# Altium footprint library 35x30-blackbox.PcbLib: 16 footprints
Each footprint in its own frame and in the unit in brackets; x right, y up, seen from the top. Pads: shape width x height; smd on the part's side, far side on the other; paste and mask are expansions set on the pad; w line width, h text height; cw(c..) or ccw(c..) is an arc to the next point about the centre after c.
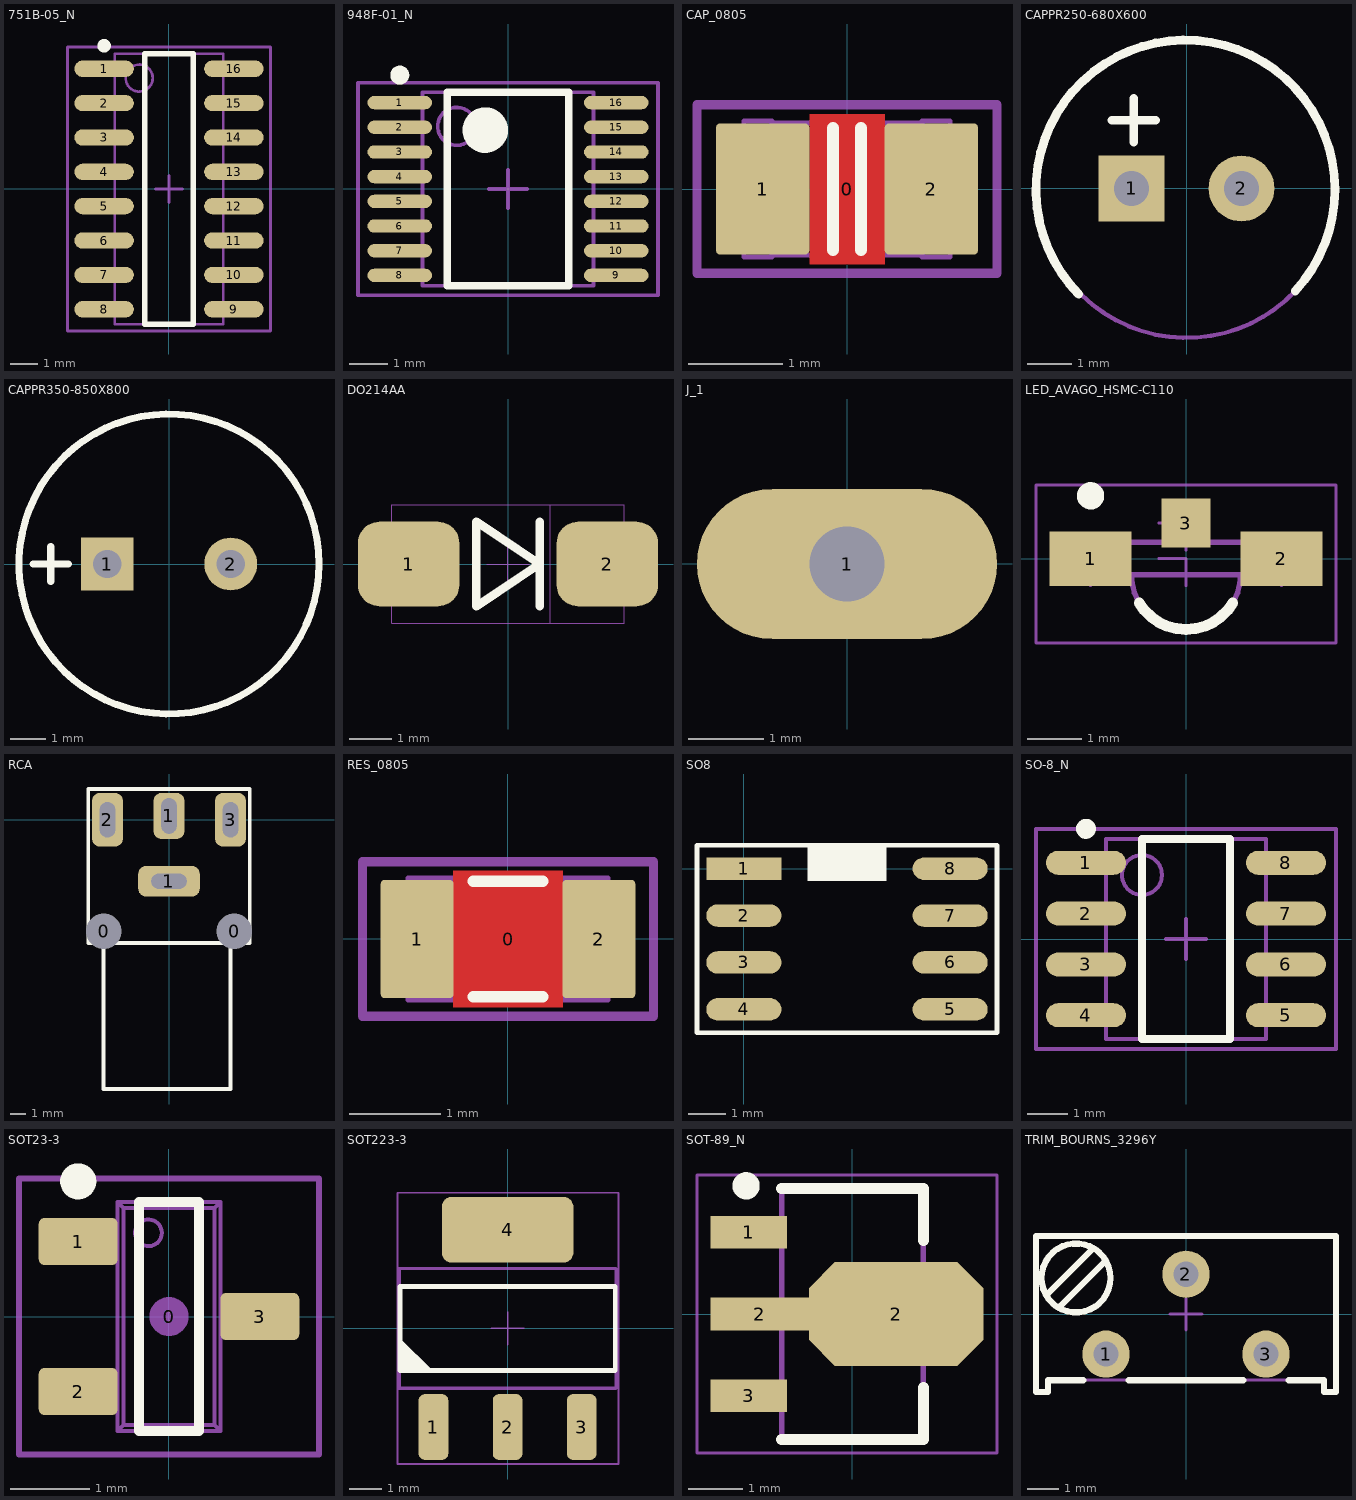
[diagram p0: the footprints below, top view; thin cyan lines are the x and y axes]

## 751B-05_N [mm] "SOIC, 16-Leads, Body 9.9x3.9mm, Pitch 1.27mm, IPC Medium Density"
height 1.75
pads (16):
  oval 2.2x0.6 smd: 1(-2.4,4.445) 2(-2.4,3.175) 3(-2.4,1.905) 4(-2.4,0.635) 5(-2.4,-0.635) 6(-2.4,-1.905) 7(-2.4,-3.175) 8(-2.4,-4.445) 9(2.4,-4.445) 10(2.4,-3.175) 11(2.4,-1.905) 12(2.4,-0.635) 13(2.4,0.635) 14(2.4,1.905) 15(2.4,3.175) 16(2.4,4.445)
Top Overlay:
  circle w0.25: c-2.4,5.295 r0.125
  lines w0.2: -0.9,-5 0.9,-5 0.9,5 -0.9,5 -0.9,-5
Mechanical 13:
  circle w0.1: c-1.1,4.1 r0.5
  lines w0.1: -2,-5 2,-5 2,5 -2,5 -2,-5
Mechanical 15:
  lines w0.1: -0.5,0 0.5,0 ; 0,-0.5 0,0.5 ; -3.75,-5.25 3.75,-5.25 3.75,5.25 -3.75,5.25 -3.75,-5.25
3D body: height 1.75, standoff 0, extent -2,-5 2,5

## 948F-01_N [mm] "TSOP, 16-Leads, Body 5x4.4mm, Pitch 0.65mm, IPC Medium Density"
height 1.2
pads (16):
  oval 1.7x0.35 smd: 1(-2.85,2.275) 2(-2.85,1.625) 3(-2.85,0.975) 4(-2.85,0.325) 5(-2.85,-0.325) 6(-2.85,-0.975) 7(-2.85,-1.625) 8(-2.85,-2.275) 9(2.85,-2.275) 10(2.85,-1.625) 11(2.85,-0.975) 12(2.85,-0.325) 13(2.85,0.325) 14(2.85,0.975) 15(2.85,1.625) 16(2.85,2.275)
Top Overlay:
  circle w0.6: c-0.6,1.55 r0.3
  circle w0.25: c-2.85,3 r0.125
  lines w0.2: -1.6,-2.55 1.6,-2.55 1.6,2.55 -1.6,2.55 -1.6,-2.55
Mechanical 13:
  circle w0.1: c-1.35,1.65 r0.5
  lines w0.1: -2.25,-2.55 2.25,-2.55 2.25,2.55 -2.25,2.55 -2.25,-2.55
Mechanical 15:
  lines w0.1: -0.5,0 0.5,0 ; 0,-0.5 0,0.5 ; -3.95,-2.8 3.95,-2.8 3.95,2.8 -3.95,2.8 -3.95,-2.8
3D body: height 1.2, standoff 0, extent -2.25,-2.55 2.25,2.55

## CAP_0805 [mm] "Chip Capacitor, Body 2.0x1.2mm, 0805, IPC Medium Density"
height 1.2
pads (3):
  round 0.254 on Mech14: 0(0,0)
  rrect10% 1x1.4 smd: 1(-0.9,0) 2(0.9,0)
Top Layer:
  pour cut-out: -0.4,0.8 0.4,0.8 0.4,-0.8 -0.4,-0.8
Top Overlay:
  lines w0.127: -0.15,-0.651 -0.15,0.651 ; 0.15,-0.651 0.15,0.651
Mechanical 13:
  lines w0.05: -0.8,-0.705 0.8,-0.705 ; -0.8,0.705 0.8,0.705 ; -1.1,-0.725 -0.8,-0.725 -0.8,0.725 -1.1,0.725 -1.1,-0.725 ; 0.8,-0.725 0.8,0.725 1.1,0.725 1.1,-0.725 0.8,-0.725
Mechanical 14:
  lines w0.1: -1.6,-0.9 1.6,-0.9 1.6,0.9 -1.6,0.9 -1.6,-0.9
3D body "CAP_0805.STEP": height 1.34, standoff -0.01, extent -1.1,-0.725 1.1,0.725

## CAPPR250-680X600 [mm] "Capacitor, Radial, Pin spacing 2.5mm - Body Diameter 6.8mm X Body Height 6.0mm"
height 6
pads (2):
  rect 1.5x1.5 hole 0.8: 1(-1.25,0)
  round 1.5 hole 0.8: 2(1.25,0)
Top Overlay:
  lines w0.2: -2.451,-2.407 cw(c-0.025,-0.025) 2.474,-2.33 ; -1.7,1.55 -0.7,1.55 ; -1.2,1.05 -1.2,2.05
Mechanical 13:
  circle w0.1: c0,0 r3.4
Mechanical 14:
  circle w0.1: c0,0 r3.4
  lines w0.1: -1.7,1.55 -0.7,1.55 ; -1.2,1.05 -1.2,2.05
3D body "CAPPR250-680X600.stp": height 6, standoff -3.6, extent -3.41,-3.41 3.39,3.39

## CAPPR350-850X800 [mm] "Capacitor, Radial, Pin spacing 3.5mm - Body Diameter 8.5mm x Body Height 8.0mm"
height 8
pads (2):
  rect 1.5x1.5 hole 0.8: 1(-1.75,0)
  round 1.5 hole 0.8: 2(1.75,0)
Top Overlay:
  circle w0.2: c0,0 r4.25
  lines w0.2: -3.85,0 -2.85,0 ; -3.35,-0.5 -3.35,0.5
Mechanical 8:
  circle w0.1: c1.75,0 r0.225
  circle w0.1: c-1.75,0 r0.225
  lines w0.1: -1.975,0 -1.75,0 -1.75,-0.225 ; 1.525,0 1.75,0 1.75,-0.225
Mechanical 14:
  circle w0.1: c0,0 r4.25
  lines w0.1: -3.85,0 -2.85,0 ; -3.35,-0.5 -3.35,0.5
3D body "CAPPR350-850X800.stp": height 8, standoff -3.6, extent -4.25,-4.25 4.25,4.25

## DO214AA [mm]
pads (2):
  rrect50% 2.4x2 smd: 1(-2.35,0)
  rrect50% 2.4x2 smd mask+0.102: 2(2.35,0)
Top Overlay:
  lines w0.2: 0.75,-1 0.75,1 ; -0.75,-1 0.75,0 -0.75,1 -0.75,-1
Mechanical 1:
  lines w0.025: -0.5,0 0.5,0 ; 0,-0.5 0,0.5 ; 1,-1.4 1,1.4 ; -2.75,-1.4 2.75,-1.4 2.75,1.4 -2.75,1.4 -2.75,-1.4
3D body "DO214AA.stp": height 2.5, standoff 0, extent -2.75,-1.4 2.75,1.4

## J_1 [mm]
pads (1):
  oval 4x2 hole 1: 1(0,0)

## LED_AVAGO_HSMC-C110 [mm] "Red Chip LED, 2-Leads, Body 3.3x1.6mm, Side Emitting Package"
height 1.1
pads (3):
  rect 1.5x1 smd: 1(-1.75,0) 2(1.75,0)
  rect 0.9x0.9 smd: 3(0,0.65)
Top Overlay:
  circle w0.25: c-1.75,1.15 r0.125
  lines w0.2: -0.857,-0.814 ccw(c0,-0.3) 0.857,-0.814
Mechanical 8:
  lines w0.05: -2.25,0 -1.75,0 -1.75,-0.5 ; -0.5,0 0,0 0,-0.5 ; -0.5,0.65 0,0.65 0,0.15 ; 1.25,0 1.75,0 1.75,-0.5
  text "K" at -1.483,-0.25 h1
Mechanical 14:
  lines w0.1: -1,-0.3 ccw(c0,-0.3) 1,-0.3 ; -1.65,-0.3 -1.65,0.3 1.65,0.3 1.65,-0.3 -1.65,-0.3
Mechanical 15:
  lines w0.05: -2.75,-1.55 -2.75,1.35 2.75,1.35 2.75,-1.55 -2.75,-1.55
3D body "LED_AVAGO_HSMC-C110.stp": height 1, standoff 0, extent -1.65,-1.3 1.65,0.3

## RCA [mm]
pads (6):
  round 1.524 hole 2.3: 0(-4.25,-7.25) 0(4.25,-7.25)
  rrect50% 4x2 hole 1 slot 2.3 at 0 deg: 1(0,-4)
  rrect50% 2x3 hole 1 slot 2.3 at 90 deg: 1(0,0.25)
  rrect50% 2x3.5 hole 1 slot 2.3 at 90 deg: 2(-4,0) 3(4,0)
Top Overlay:
  lines w0.254: -4.25,-8 -4.25,-17.5 4,-17.5 4,-8 ; -5.25,-8 5.25,-8 5.25,2 -5.25,2 -5.25,-8
3D body "rcj-041.stp": height 12, standoff -3.5, extent -5,-17.5 5,2

## RES_0805 [mm] "Chip Resistor, Body 2.0x1.2mm, 0805, IPC Medium Density"
height 0.7
pads (3):
  round 0.254 on Mech14: 0(0,0)
  rrect10% 0.8x1.3 smd: 1(-1,0) 2(1,0)
Top Layer:
  pour cut-out: -0.6,0.75 0.6,0.75 0.6,-0.75 -0.6,-0.75
Top Overlay:
  lines w0.127: -0.381,-0.635 0.381,-0.635 ; -0.381,0.635 0.381,0.635
Mechanical 13:
  lines w0.05: 0.6,-0.674 -0.6,-0.674 0.6,-0.674 ; 0.6,0.674 -0.6,0.673 0.6,0.674 ; 0.6,0.675 0.6,-0.675 1.1,-0.675 1.1,0.675 0.6,0.675 ; -1.1,-0.675 -1.1,0.675 -0.6,0.675 -0.6,-0.675 -1.1,-0.675
Mechanical 14:
  lines w0.1: -1.6,-0.85 -1.6,0.85 1.6,0.85 1.6,-0.85 -1.6,-0.85
3D body "RES 0805 (2012 metric).STEP": height 0.69, standoff -0.01, extent -1.1,-0.675 1.1,0.675

## SO8 [mil]
pads (8):
  rect 80x24 smd: 1(0,0)
  oval 80x24 smd: 2(0,-50) 3(0,-100) 4(0,-150) 5(220,-150) 6(220,-100) 7(220,-50) 8(220,0)
Top Overlay:
  rectangle: 68,-13 152,25
  lines w5: -50,-175 270,-175 270,25 -50,25 -50,-175
3D body "SW3DPS-SO-8-DEFAULT.STEP": height 57, standoff 0, extent -5,-171.5 222.49,21.5

## SO-8_N [mm] "SOIC, 8-Leads, Body 4.9x3.9mm, Pitch 1.27mm, IPC Medium Density"
height 1.75
pads (8):
  oval 2x0.6 smd: 1(-2.5,1.905) 2(-2.5,0.635) 3(-2.5,-0.635) 4(-2.5,-1.905) 5(2.5,-1.905) 6(2.5,-0.635) 7(2.5,0.635) 8(2.5,1.905)
Top Overlay:
  circle w0.25: c-2.5,2.755 r0.125
  lines w0.2: -1.1,-2.5 1.1,-2.5 1.1,2.5 -1.1,2.5 -1.1,-2.5
Mechanical 13:
  circle w0.1: c-1.1,1.6 r0.5
  lines w0.1: -2,-2.5 2,-2.5 2,2.5 -2,2.5 -2,-2.5
Mechanical 15:
  lines w0.1: -0.5,0 0.5,0 ; 0,-0.5 0,0.5 ; -3.75,-2.75 3.75,-2.75 3.75,2.75 -3.75,2.75 -3.75,-2.75
3D body: height 1.75, standoff 0, extent -2,-2.5 2,2.5

## SOT23-3 [mm] "SOT23, 3 pin"
height 1.003
pads (4):
  round 0.5 on Mech14: 0(0,0)
  rrect25% 1x0.6 smd: 1(-1.15,0.95) 2(-1.15,-0.95) 3(1.15,0)
Top Overlay:
  circle w0.254: c-1.15,1.712 r0.102
  lines w0.127: -0.381,-1.45 -0.381,1.45 0.381,1.45 0.381,-1.45 -0.381,-1.45
Mechanical 13:
  circle w0.05: c-0.26,1.06 r0.169
  lines w0.05: -1.19,-1.19 -1.19,-0.71 ; -1.19,0.71 -1.19,1.19 ; -1.099,-1.19 -1.099,-0.71 ; -1.099,0.71 -1.099,1.19 ; -1.074,-1.19 -1.074,-0.71 ; -1.074,0.71 -1.074,1.19 ; -0.825,-1.19 -0.825,-0.71 ; -0.825,0.71 -0.825,1.19 ; -0.65,-1.19 -1.4,-1.19 -1.4,-0.71 -0.65,-0.71 ; -0.65,0.71 -1.4,0.71 -1.4,1.19 -0.65,1.19 ; 0.65,-0.24 1.4,-0.24 1.4,0.24 0.65,0.24 ; 0.825,-0.24 0.825,0.24 ; 1.074,-0.24 1.074,0.24 ; 1.099,-0.24 1.099,0.24 ; 1.19,-0.24 1.19,0.24 ; -0.65,-1.45 0.65,-1.45 ; -0.65,-1.45 -0.65,1.45 ; -0.65,-1.45 -0.576,-1.376 ; -0.65,1.45 -0.576,1.376 ; -0.65,1.45 0.65,1.45 ; -0.576,-1.376 0.576,-1.376 ; -0.576,-1.376 -0.576,1.376 ; -0.576,1.376 0.576,1.376 ; 0.576,-1.376 0.65,-1.45 ; 0.576,-1.376 0.576,1.376 ; 0.576,1.376 0.65,1.45 ; 0.65,-1.45 0.65,1.45
Mechanical 14:
  lines w0.076: -1.9,-1.75 -1.9,1.75 1.9,1.75 1.9,-1.75 -1.9,-1.75
3D body "SOT23-3.STEP": height 1.29, standoff -0.01, extent -1.4,-1.45 1.4,1.45

## SOT223-3 [mil]
height 70.87
pads (4):
  rrect40% 36x80 smd: 1(-90.16,-120) 2(0,-120) 3(90.16,-120)
  rrect30% 160x80 smd: 4(0,120)
Top Overlay:
  region: -131,-51.18 -131,-11.81 -91.63,-51.18
  lines w6: -131,-51.18 -131,51.18 131,51.18 131,-51.18 -131,-51.18
Mechanical 13:
  lines w2: -20,0 20,0 ; 0,-20 0,20
  lines w3.94: -131.89,-72.84 -131.89,72.83 131.89,72.83 131.89,-72.84 -131.89,-72.84
Mechanical 14:
  lines w2: -134,-165 -134,165 135,165 135,-165 -134,-165
3D body "SOT223-4.STEP": height 70.87, standoff 0, extent -131.89,-143.7 131.89,143.7

## SOT-89_N [mm] "SOT89, 3-Leads, Body 4.5x2.4 mm, Pitch 1.5mm, Lead Span 4.1mm, IPC Medium Density"
height 1.6
pads (4):
  rect 1.4x0.6 smd: 1(-1.9,1.5) 3(-1.9,-1.5)
  rect 1.8x0.6 smd: 2(-1.7,0)
  oct 3.2x1.9 smd: 2(0.8,0)
Top Overlay:
  circle w0.25: c-1.95,2.35 r0.125
  lines w0.2: -1.3,-2.3 1.3,-2.3 1.3,-1.35 ; -1.3,2.3 1.3,2.3 1.3,1.35
Mechanical 13:
  lines w0.1: -1.3,-2.3 -1.3,2.3 1.3,2.3 1.3,-2.3 -1.3,-2.3
Mechanical 15:
  lines w0.05: -2.85,-2.55 -2.85,2.55 2.65,2.55 2.65,-2.55 -2.85,-2.55
  lines w0.1: -0.5,0 0.5,0 ; 0,-0.5 0,0.5
3D body: height 1.6, standoff 0, extent -1.3,-2.3 1.3,2.3

## TRIM_BOURNS_3296Y [mm] "Trimming Potentiometer BOURNS 3296Y Series"
height 11.55
pads (3):
  round 1.5 hole 0.8: 1(-2.54,-1.27) 2(0,1.27) 3(2.54,-1.27)
Top Overlay:
  circle w0.2: c-3.495,1.15 r1.095
  lines w0.2: -4.442,0.599 -2.944,2.097 ; -4.046,0.203 -2.548,1.701 ; -3.265,-2.095 -4.385,-2.095 -4.385,-2.475 -4.765,-2.475 -4.765,2.485 4.765,2.485 4.765,-2.475 4.385,-2.475 4.385,-2.095 3.265,-2.095 ; -1.815,-2.095 1.815,-2.095
Mechanical 8:
  lines w0.1: -3.04,-1.27 -2.54,-1.27 ; -2.54,-1.77 -2.54,-1.27 ; -2.54,-0.77 -2.54,-1.27 ; -2.04,-1.27 -2.54,-1.27 ; -0.5,0 0,0 ; -0.5,1.27 0,1.27 ; 0,-0.5 0,0 ; 0,0.5 0,0 ; 0,0.77 0,1.27 ; 0,1.77 0,1.27 ; 0.5,0 0,0 ; 0.5,1.27 0,1.27 ; 2.04,-1.27 2.54,-1.27 ; 2.54,-1.77 2.54,-1.27 ; 2.54,-0.77 2.54,-1.27 ; 3.04,-1.27 2.54,-1.27
Mechanical 14:
  circle w0.1: c-3.495,1.15 r1.095
  lines w0.1: -4.442,0.599 -2.944,2.097 ; -4.046,0.203 -2.548,1.701 ; -4.765,-2.475 -4.765,2.485 4.765,2.485 4.765,-2.475 4.385,-2.475 4.385,-2.095 -4.385,-2.095 -4.385,-2.475 -4.765,-2.475
3D body "TRIM_BOURNS_3296Y.stp": height 11.49, standoff -3.42, extent -4.765,-2.475 4.765,2.485